# Altium schematic symbol library 282837-3.SchLib: 1 symbol
Pins are listed as number, name and electrical type; pins without a type are passive.

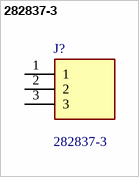
[diagram p0: symbol 282837-3]

## 282837-3
designator J?
Fixed Terminal Blocks 5.08MM PCB MOUNT 3P; Manufacturer_Name: TE Connectivity; Geometry.Height: 10.3mm; Mouser Part Number: 571-2828373; Mouser Price/Stock: https://www.mouser.co.uk/ProductDetail/TE-Connectivity/282837-3?qs=A%252Bip%252BNCYi6PMRxtBYEOSrQ%3D%3D; Manufacturer_Part_Number: 282837-3; Datasheet Link: *
footprint 2828373
pins: 1, 2, 3